# EAGLE library part OPA4377AIPWR (library OPA4377AIPWR)
Low-Cost, Low Noise, 5.5MHz CMOS Operational Amplifier Source: Datasheet <http://www.ti.com/lit/ds/symlink/opa4377.pdf>
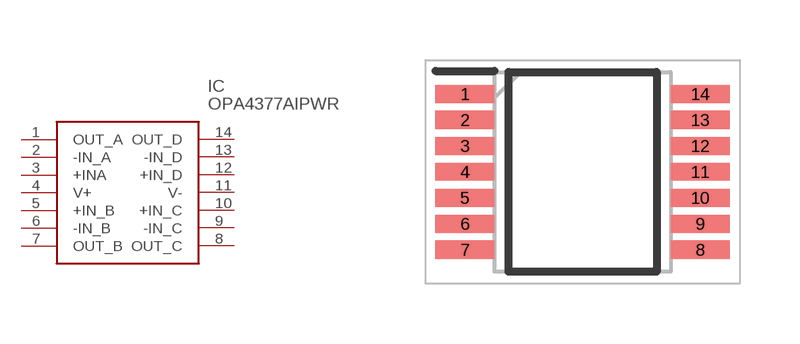
[diagram p0: symbol with the pads of SOP65P640X120-14N; footprint SOP65P640X120-14N]

Designator prefix IC

## OPA4377AIPWR (Description: Low-Cost, Low Noise, 5.5MHz CMOS Operational Amplifier; Height: 1.2mm; Manufacturer_Name: Texas Instruments; Manufacturer_Part_Number: OPA4377AIPWR; Mouser_Part_Number: 595-OPA4377AIPWR; Mouser_Price-Stock: https://www.mouser.co.uk/ProductDetail/Texas-Instruments/OPA4377AIPWR?qs=yoyprvkDL1lk4GGp%252BnY4pg%3D%3D)  [SOP65P640X120-14N]
1  OUT_A
2  -IN_A
3  +INA
4  V+
5  +IN_B
6  -IN_B
7  OUT_B
8  OUT_C
9  -IN_C
10  +IN_C
11  V-
12  +IN_D
13  -IN_D
14  OUT_D

## Footprint SOP65P640X120-14N (pad centres in mm)
PW (R-PDSO-G14)
smd 1.475 x 0.45: 1 -2.938,1.95; 2 -2.938,1.3; 3 -2.938,0.65; 4 -2.938,0; 5 -2.938,-0.65; 6 -2.938,-1.3; 7 -2.938,-1.95; 8 2.938,-1.95; 9 2.938,-1.3; 10 2.938,-0.65; 11 2.938,0; 12 2.938,0.65; 13 2.938,1.3; 14 2.938,1.95